# EAGLE library part HDC2010 (library AloyseTech-IC)
Low power temperature and relative humidity sensor
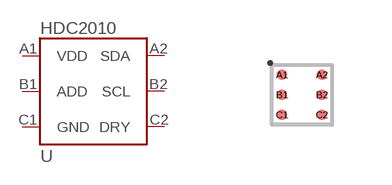
[diagram p2: symbol with the pads of HDC2010; footprint HDC2010]

Designator prefix -

## HDC2010-DSBGA  [HDC2010]
A1  VDD  pwr
A2  SDA
B1  ADD
B2  SCL
C1  GND
C2  DRY

## Footprint HDC2010 (pad centres in mm)
smd 0.263 x 0.263: A1 -0.5,0.5; A2 0.5,0.5; B1 -0.5,0; B2 0.5,0; C1 -0.5,-0.5; C2 0.5,-0.5